# Altium schematic symbol library GesturaGloveComponents.SchLib: 12 symbols
Pins are listed as number, name and electrical type; pins without a type are passive.

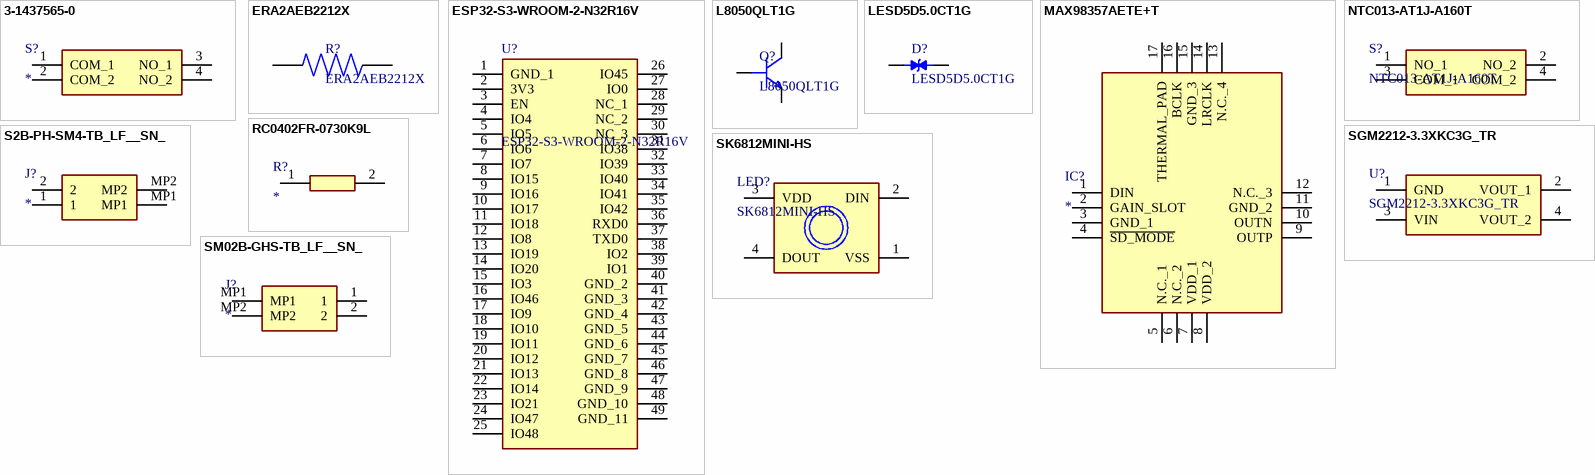
[diagram p0: symbols 3-1437565-0 to SM02B-GHS-TB_LF__SN_]

## 3-1437565-0
designator S?
Switch; Manufacturer_Name: TE Connectivity; Manufacturer_Part_Number: 3-1437565-0; Datasheet Link: https://www.te.com/commerce/DocumentDelivery/DDEController?Action=showdoc&DocId=Customer+Drawing%7F2-1437565-7%7FV%7Fpdf%7FEnglish%7FENG_CD_2-1437565-7_V.pdf%7F3-1437565-0; Height: 4.39mm; Mouser Part Number: 506-3-1437565-0; Mouser Price/Stock: https://www.mouser.co.uk/ProductDetail/TE-Connectivity-PB/3-1437565-0?qs=%2FwXgF%2FfIho%2FDAgSy8ONeew%3D%3D; Arrow Part Number: 3-1437565-0; Arrow Price/Stock: https://www.arrow.com/en/products/3-1437565-0/te-connectivity?region=europe
footprint 314375650
pins: 1 COM_1, 2 COM_2, 3 NO_1, 4 NO_2

## ERA2AEB2212X
designator R?
Res Thin Film 0402 22.1K Ohm 0.1% 1/16W ±25ppm/°C Molded SMD Punched Paper T/R; Value: 22.1k; Package: None; Price: None; MP: ERA2AEB2212X; Availability: Unavailable
footprint RES_ERA2AEB2212X
pins: 1, 2

## ESP32-S3-WROOM-2-N32R16V
designator U?
Bluetooth, WiFi 802.11b/g/n, Bluetooth v5.0 Transceiver Module 2.4GHz PCB Trace Surface Mount; Manufacturer_Name: Espressif Systems; Geometry.Height: 3.25mm; Mouser Part Number: 356-SP32S3WM2N32R16V; Mouser Price/Stock: https://www.mouser.co.uk/ProductDetail/Espressif-Systems/ESP32-S3-WROOM-2-N32R16V?qs=%252BHhoWzUJg4Kf%2FwmS40wg%252BQ%3D%3D; Manufacturer_Part_Number: ESP32-S3-WROOM-2-N32R16V; Datasheet Link: https://www.digikey.in/en/products/detail/espressif-systems/ESP32-S3-WROOM-2-N32R16V/25811280
footprint ESP32S3WROOM2N32R16V
pins: 1 GND_1, 2 3V3, 3 EN, 4 IO4, 5 IO5, 6 IO6, 7 IO7, 8 IO15, 9 IO16, 10 IO17, 11 IO18, 12 IO8, 13 IO19, 14 IO20, 15 IO3, 16 IO46, 17 IO9, 18 IO10, 19 IO11, 20 IO12, 21 IO13, 22 IO14, 23 IO21, 24 IO47, 25 IO48, 26 IO45, 27 IO0, 28 NC_1, 29 NC_2, 30 NC_3, 31 IO38, 32 IO39, 33 IO40, 34 IO41, 35 IO42, 36 RXD0, 37 TXD0, 38 IO2, 39 IO1, 40 GND_2, 41 GND_3, 42 GND_4, 43 GND_5, 44 GND_6, 45 GND_7, 46 GND_8, 47 GND_9, 48 GND_10, 49 GND_11

## L8050QLT1G
designator Q?
25V 225mW 800mA NPN SOT-23(SOT-23-3) Bipolar Transistors - BJT ROHS
footprint L8050QLT1G
pins: 1 C, 2 E, 3 B

## LESD5D5.0CT1G
designator D?
Transient Voltage Suppressors for ESD Protection; MF: Leshan Radio Co.; Check_prices: https://www.snapeda.com/parts/LESD5D5.0CT1G/Leshan+Radio+Co./view-part/?ref=eda; Value: *; Availability: Not in stock; Package: None; SnapEDA_Link: https://www.snapeda.com/parts/LESD5D5.0CT1G/Leshan+Radio+Co./view-part/?ref=snap; MP: LESD5D5.0CT1G; Price: None
footprint TVS_LESD5D5.0CT1G
pins: 1, 2

## MAX98357AETE+T
designator IC?
Integrated Circuit; Manufacturer_Name: Analog Devices; Manufacturer_Part_Number: MAX98357AETE+T; Datasheet Link: https://datasheets.maximintegrated.com/en/ds/MAX98357A-MAX98357B.pdf; Height: 0.8mm; Mouser Part Number: 700-MAX98357AETE+T; Mouser Price/Stock: https://www.mouser.co.uk/ProductDetail/Analog-Devices-Maxim-Integrated/MAX98357AETE%2bT?qs=AAveGqk956HhNpoJjF5x2g%3D%3D; Arrow Part Number: MAX98357AETE+T; Arrow Price/Stock: https://www.arrow.com/en/products/max98357aetet/analog-devices.html?utm_currency=USD&region=asia
footprint QFN50P300X300X80-17N
pins: 1 DIN, 2 GAIN_SLOT, 3 GND_1, 4 ~{SD_MODE}, 5 N.C._1, 6 N.C._2, 7 VDD_1, 8 VDD_2, 9 OUTP, 10 OUTN, 11 GND_2, 12 N.C._3, 13 N.C._4, 14 LRCLK, 15 GND_3, 16 BCLK, 17 THERMAL_PAD

## NTC013-AT1J-A160T
designator S?
4-pin Switch; Manufacturer_Name: N&H Technology; Datasheet Link: https://www.nh-technology.de/T-Mec/PDF/Series_TC/NTC013.pdf; Height: 2.7mm; Manufacturer_Part_Number: NTC013-AT1J-A160T
footprint NTC013AT1JA160T
pins: 1 NO_1, 2 NO_2, 3 COM_1, 4 COM_2

## RC0402FR-0730K9L
designator R?
Resistor; Manufacturer_Name: Yageo Group; Manufacturer_Part_Number: RC0402FR-0730K9L; Datasheet Link: http://www.yageo.com/documents/recent/PYu-RC0402_51_RoHS_L_6_r.pdf; Height: 0.4mm; Mouser Part Number: 603-RC0402FR-0730K9L; Mouser Price/Stock: https://www.mouser.com/Search/Refine.aspx?Keyword=603-RC0402FR-0730K9L; Arrow Part Number: RC0402FR-0730K9L; Arrow Price/Stock: https://www.arrow.com/en/products/rc0402fr-0730k9l/yageo.html?utm_currency=USD&region=nac
footprint RESC1005X40N (Footprint not found)
pins: 1, 2

## S2B-PH-SM4-TB_LF__SN_
designator J?
Connector; Manufacturer_Name: JST (JAPAN SOLDERLESS TERMINALS); Manufacturer_Part_Number: S2B-PH-SM4-TB(LF)(SN); Datasheet Link: https://www.jst-mfg.com/product/pdf/eng/ePH.pdf; Height: 6.6mm; Mouser Part Number: N/A; Mouser Price/Stock: https://www.mouser.co.uk/ProductDetail/JST-Commercial/S2B-PH-SM4-TBLFSN?qs=QpmGXVUTftEA9IU90i0xlg%3D%3D; Arrow Part Number: S2B-PH-SM4-TB(LF)(SN); Arrow Price/Stock: https://www.arrow.com/en/products/s2b-ph-sm4-tb-lf-sn/jst-manufacturing?utm_currency=USD&region=europe
footprint S2BPHSM4TBLFSN
pins: 1, 2, MP1, MP2

## SGM2212-3.3XKC3G_TR
designator U?
80dB@(120Hz) 80¦ÌA fixed 800mA 1 3.3V 2.7V 3.3V 20V 450mV@(800mA) 0.4% (MAX) SOT-223-3; Manufacturer_Name: SGMICRO; Manufacturer_Part_Number: SGM2212-3.3XKC3G/TR; Datasheet Link: http://cn.sg-micro.com/uploads/soft/20220506/1651835177.pdf; Height: 1.8mm
footprint SOT230P700X180-4N
pins: 1 GND, 2 VOUT_1, 3 VIN, 4 VOUT_2

## SK6812MINI-HS
designator LED?
LED; Manufacturer_Name: Intelligent LED Solutions; Manufacturer_Part_Number: ILPH-K501-RGBW-SK6812-05-01; Datasheet Link: https://docs.rs-online.com/4a12/A700000006465151.pdf; Height: 1.7mm
footprint SK6812MINI-HS
pins: 1 VSS, 2 DIN, 3 VDD, 4 DOUT

## SM02B-GHS-TB_LF__SN_
designator J?
Connector; Manufacturer_Name: JST (JAPAN SOLDERLESS TERMINALS); Manufacturer_Part_Number: SM02B-GHS-TB(LF)(SN);-; Datasheet Link: https://www.jst-mfg.com/product/pdf/eng/eGH.pdf?5f47a99109e2b; Height: 4.25mm; Mouser Part Number: 306-SM02BGHSTBLFSN; Mouser Price/Stock: https://www.mouser.co.uk/ProductDetail/JST-Commercial/SM02B-GHS-TBLFSN-?qs=QpmGXVUTftESG1q8ruD2pA%3D%3D
footprint SM02BGHSTBLFSN
pins: 1, 2, MP1, MP2